# Altium schematic symbol library Schlib1.SchLib: 12 symbols
Pins are listed as number, name and electrical type; pins without a type are passive.

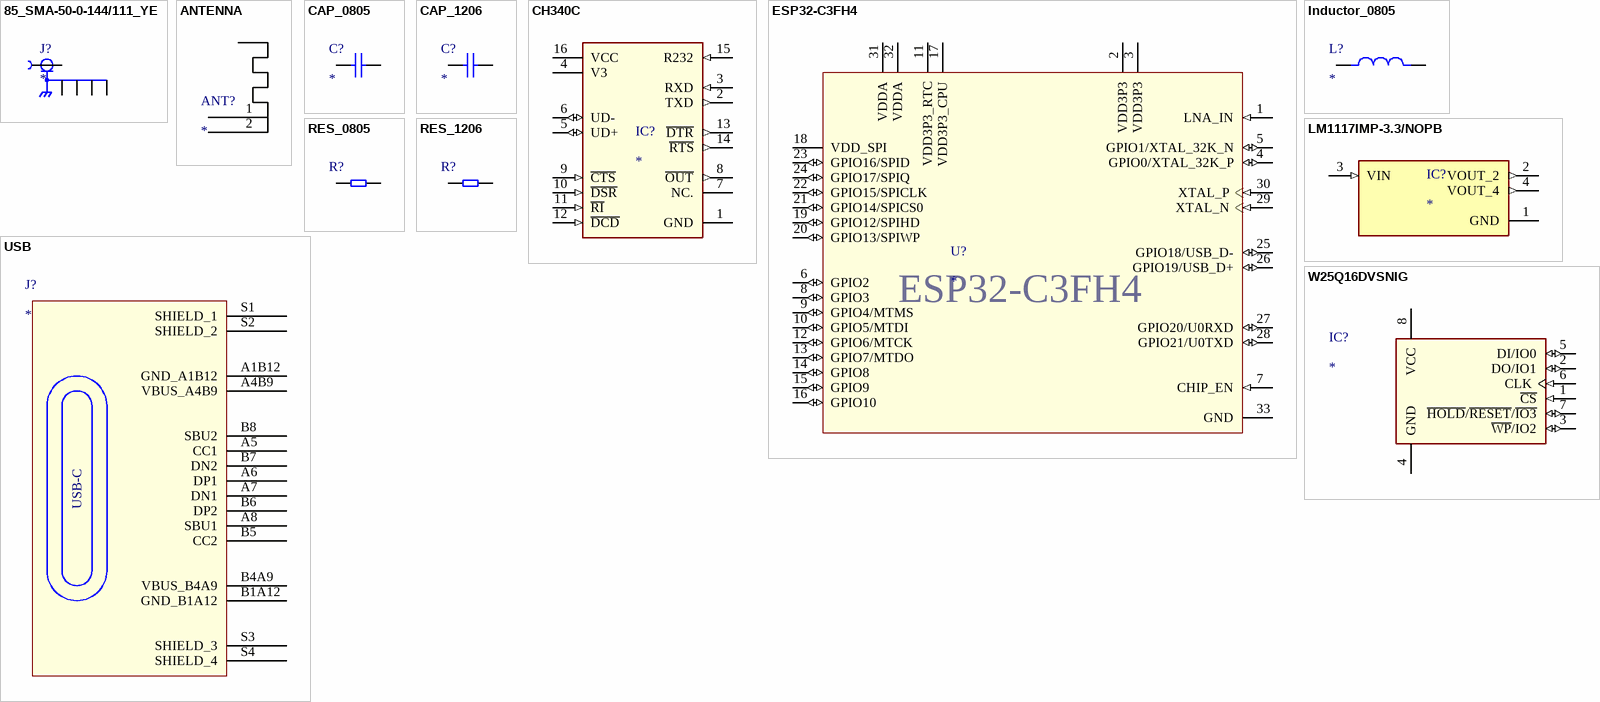
[diagram p0: symbols 85_SMA-50-0-144/111_YE to W25Q16DVSNIG]

## 85_SMA-50-0-144/111_YE
designator J?
RF Connectors / Coaxial Connectors, Right Angle Pcb Jack | HUBER+SUHNER 85_SMA-50-0-144/111_YE; SnapEDA_Link: https://www.snapeda.com/parts/85_SMA-50-0-144/111_YE/Huber%252BSuhner/view-part/?ref=snap; Package: None; Value: *; MF: HUBER+SUHNER; MP: 85_SMA-50-0-144/111_YE; Check_prices: https://www.snapeda.com/parts/85_SMA-50-0-144/111_YE/Huber%252BSuhner/view-part/?ref=eda
footprint SMA
pins: 1, G1 (power), G2 (power), G3 (power), G4 (power)

## ANTENNA
designator ANT?
footprint ANT_IFA_USB_2_4GHZ_50R
pins: 1, 2

## CAP_0805
designator C?
footprint 0805_CAP
pins: 1, 2

## CAP_1206
designator C?
footprint 1206_CAP
pins: 1, 2

## CH340C
designator IC?
footprint CH340C
pins: 1 GND (power), 2 TXD (out), 3 RXD (in), 4 V3 (power), 5 UD+ (io), 6 UD- (io), 7 NC., 8 ~{OUT} (out), 9 ~{CTS} (in), 10 ~{DSR} (in), 11 ~{RI} (in), 12 ~{DCD} (in), 13 ~{DTR} (out), 14 ~{RTS} (out), 15 R232 (in), 16 VCC (power)

## ESP32-C3FH4
designator U?
MP: ESP32-C3FH4; Package: None; Price: None; Value: *; Availability: Unavailable
footprint ESP32-C3FN4
footprint QFN50P500X500X90-33N
pins: 1 LNA_IN (in), 2 VDD3P3 (power), 3 VDD3P3 (power), 4 GPIO0/XTAL_32K_P (io), 5 GPIO1/XTAL_32K_N (io), 6 GPIO2 (io), 7 CHIP_EN (in), 8 GPIO3 (io), 9 GPIO4/MTMS (io), 10 GPIO5/MTDI (io), 11 VDD3P3_RTC (power), 12 GPIO6/MTCK (io), 13 GPIO7/MTDO (io), 14 GPIO8 (io), 15 GPIO9 (io), 16 GPIO10 (io), 17 VDD3P3_CPU (power), 18 VDD_SPI (power), 19 GPIO12/SPIHD (io), 20 GPIO13/SPIWP (io), 21 GPIO14/SPICS0 (io), 22 GPIO15/SPICLK (io), 23 GPIO16/SPID (io), 24 GPIO17/SPIQ (io), 25 GPIO18/USB_D- (io), 26 GPIO19/USB_D+ (io), 27 GPIO20/U0RXD (io), 28 GPIO21/U0TXD (io), 29 XTAL_N (in), 30 XTAL_P (in), 31 VDDA (power), 32 VDDA (power), 33 GND (power)

## Inductor_0805
designator L?
MF: Abracon; MP: ASMPH-0805-1R0M-T; SnapEDA_Link: https://www.snapeda.com/parts/ASMPH-0805-1R0M-T/Abracon/view-part/?ref=snap; Package: Package; Value: *; Check_prices: https://www.snapeda.com/parts/ASMPH-0805-1R0M-T/Abracon/view-part/?ref=eda
footprint 0805_INDUCTOR
pins: 1, 2

## LM1117IMP-3.3/NOPB
designator IC?
800-mA 15-V linear voltage regulator; MF: Texas Instruments; MP: LM1117IMP-3.3/NOPB; SnapEDA_Link: https://www.snapeda.com/parts/LM1117IMP-3.3/NOPB/Texas+Instruments/view-part/?ref=snap; Package: SOT-223-4 Texas Instruments; Value: *; Check_prices: https://www.snapeda.com/parts/LM1117IMP-3.3/NOPB/Texas+Instruments/view-part/?ref=eda
footprint LM1117 3V3
pins: 1 GND (power), 2 VOUT_2 (out), 3 VIN (in), 4 VOUT_4 (out)

## RES_0805
designator R?
footprint RES_5K1_0805
pins: 1, 2

## RES_1206
designator R?
footprint RES_0R0_1206
pins: 1, 2

## USB
designator J?
footprint USB
pins: A1B12 GND_A1B12, A4B9 VBUS_A4B9, A5 CC1, A6 DP1, A7 DN1, A8 SBU1, B1A12 GND_B1A12, B4A9 VBUS_B4A9, B5 CC2, B6 DP2, B7 DN2, B8 SBU2, S1 SHIELD_1, S2 SHIELD_2, S3 SHIELD_3, S4 SHIELD_4
text: USB-C

## W25Q16DVSNIG
designator IC?
footprint W25Q16DVSNIG
pins: 1 ~{CS} (in), 2 DO/IO1 (io), 3 ~{WP}/IO2 (io), 4 GND (power), 5 DI/IO0 (io), 6 CLK (in), 7 ~{HOLD}/~{RESET}/~{IO3} (io), 8 VCC (power)